# EAGLE library part Z80-CONNECTOR (library common)
3M (TM) Pak 100 4-Wall Header Source: 3M
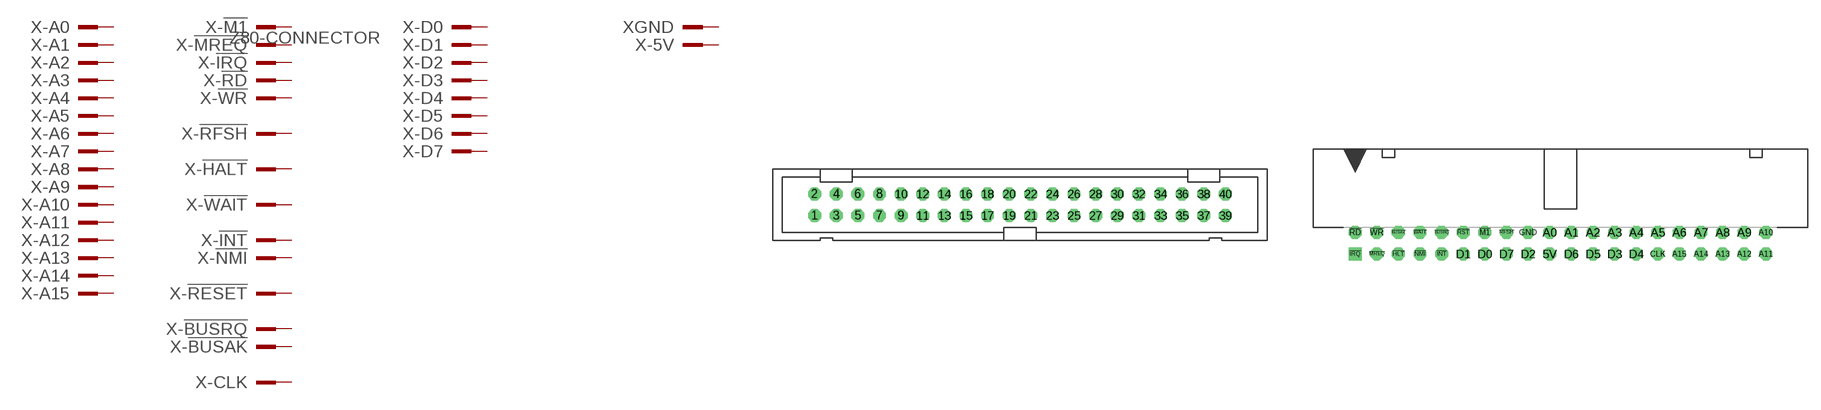
[diagram p25: symbol with the pads of PAK100/2500-40; footprints PAK100/2500-40, PAK100/2500-5-40]

Designator prefix X; gates -!IRQ=PINV-1 -!RD=PIN-1 -!MREQ=PIN-1 -!WR=PIN-1 -!HALT=PIN-1 -!BUSAK=PIN-1 -!NMI=PIN-1 -!WAIT=PIN-1 -!INT=PIN-1 -!BUSRQ=PIN-1 -D1=PIN-1 -!RESET=PIN-1 -D0=PIN-1 -!M1=PIN-1 -D7=PIN-1 -!RFSH=PIN-1 -D2=PIN-1 GND=PIN-1 -5V=PIN-1 -A0=PIN-1 -D6=PIN-1 -A1=PIN-1 -D5=PIN-1 -A2=PIN-1 -D3=PIN-1 -A3=PIN-1 -D4=PIN-1 -A4=PIN-1 -CLK=PIN-1 -A5=PIN-1 -A15=PIN-1 -A6=PIN-1 -A14=PIN-1 -A7=PIN-1 -A13=PIN-1 -A8=PIN-1 -A12=PIN-1 -A9=PIN-1 -A11=PIN-1 -A10=PIN-1

## Z80-CONNECTOR (OC_FARNELL: unknown; OC_NEWARK: unknown)  [PAK100/2500-40]
1  -!IRQ:KL  pas
2  -!RD:KL  pas
3  -!MREQ:KL  pas
4  -!WR:KL  pas
5  -!HALT:KL  pas
6  -!BUSAK:KL  pas
7  -!NMI:KL  pas
8  -!WAIT:KL  pas
9  -!INT:KL  pas
10  -!BUSRQ:KL  pas
11  -D1:KL  pas
12  -!RESET:KL  pas
13  -D0:KL  pas
14  -!M1:KL  pas
15  -D7:KL  pas
16  -!RFSH:KL  pas
17  -D2:KL  pas
18  GND:KL  pas
19  -5V:KL  pas
20  -A0:KL  pas
21  -D6:KL  pas
22  -A1:KL  pas
23  -D5:KL  pas
24  -A2:KL  pas
25  -D3:KL  pas
26  -A3:KL  pas
27  -D4:KL  pas
28  -A4:KL  pas
29  -CLK:KL  pas
30  -A5:KL  pas
31  -A15:KL  pas
32  -A6:KL  pas
33  -A14:KL  pas
34  -A7:KL  pas
35  -A13:KL  pas
36  -A8:KL  pas
37  -A12:KL  pas
38  -A9:KL  pas
39  -A11:KL  pas
40  -A10:KL  pas

## Z80-CONNECTOR-V (OC_FARNELL: 9838414; OC_NEWARK: unknown)  [PAK100/2500-5-40]
5V  -5V:KL  pas
!BUSAK  -!BUSAK:KL  pas
!BUSRQ  -!BUSRQ:KL  pas
!HLT  -!HALT:KL  pas
!INT  -!INT:KL  pas
!IRQ  -!IRQ:KL  pas
!M1  -!M1:KL  pas
!MREQ  -!MREQ:KL  pas
!NMI  -!NMI:KL  pas
!RD  -!RD:KL  pas
!RFSH  -!RFSH:KL  pas
!RST  -!RESET:KL  pas
!WAIT  -!WAIT:KL  pas
!WR  -!WR:KL  pas
A0  -A0:KL  pas
A1  -A1:KL  pas
A2  -A2:KL  pas
A3  -A3:KL  pas
A4  -A4:KL  pas
A5  -A5:KL  pas
A6  -A6:KL  pas
A7  -A7:KL  pas
A8  -A8:KL  pas
A9  -A9:KL  pas
A10  -A10:KL  pas
A11  -A11:KL  pas
A12  -A12:KL  pas
A13  -A13:KL  pas
A14  -A14:KL  pas
A15  -A15:KL  pas
CLK  -CLK:KL  pas
D0  -D0:KL  pas
D1  -D1:KL  pas
D2  -D2:KL  pas
D3  -D3:KL  pas
D4  -D4:KL  pas
D5  -D5:KL  pas
D6  -D6:KL  pas
D7  -D7:KL  pas
GND  GND:KL  pas

## Z80-CONNECTOR-X2  [PAK100/2500-5-40-X2]
1  -!IRQ:KL  pas
2  -!RD:KL  pas
3  -!MREQ:KL  pas
4  -!WR:KL  pas
5  -!HALT:KL  pas
6  -!BUSAK:KL  pas
7  -!NMI:KL  pas
8  -!WAIT:KL  pas
9  -!INT:KL  pas
10  -!BUSRQ:KL  pas
11  -D1:KL  pas
12  -!RESET:KL  pas
13  -D0:KL  pas
14  -!M1:KL  pas
15  -D7:KL  pas
16  -!RFSH:KL  pas
17  -D2:KL  pas
18  GND:KL  pas
19  -5V:KL  pas
20  -A0:KL  pas
21  -D6:KL  pas
22  -A1:KL  pas
23  -D5:KL  pas
24  -A2:KL  pas
25  -D3:KL  pas
26  -A3:KL  pas
27  -D4:KL  pas
28  -A4:KL  pas
29  -CLK:KL  pas
30  -A5:KL  pas
31  -A15:KL  pas
32  -A6:KL  pas
33  -A14:KL  pas
34  -A7:KL  pas
35  -A13:KL  pas
36  -A8:KL  pas
37  -A12:KL  pas
38  -A9:KL  pas
39  -A11:KL  pas
40  -A10:KL  pas
41  -!IRQ:KL  pas
42  -!RD:KL  pas
43  -!MREQ:KL  pas
44  -!WR:KL  pas
45  -!HALT:KL  pas
46  -!BUSAK:KL  pas
47  -!NMI:KL  pas
48  -!WAIT:KL  pas
49  -!INT:KL  pas
50  -!BUSRQ:KL  pas
51  -D1:KL  pas
52  -!RESET:KL  pas
53  -D0:KL  pas
54  -!M1:KL  pas
55  -D7:KL  pas
56  -!RFSH:KL  pas
57  -D2:KL  pas
58  GND:KL  pas
59  -5V:KL  pas
60  -A0:KL  pas
61  -D6:KL  pas
62  -A1:KL  pas
63  -D5:KL  pas
64  -A2:KL  pas
65  -D3:KL  pas
66  -A3:KL  pas
67  -D4:KL  pas
68  -A4:KL  pas
69  -CLK:KL  pas
70  -A5:KL  pas
71  -A15:KL  pas
72  -A6:KL  pas
73  -A14:KL  pas
74  -A7:KL  pas
75  -A13:KL  pas
76  -A8:KL  pas
77  -A12:KL  pas
78  -A9:KL  pas
79  -A11:KL  pas
80  -A10:KL  pas

## Footprint PAK100/2500-40 (pad centres in mm)
3M (TM) Pak 100 4-Wall Header Straight Source: 3M
drill 1 octagon: 1 -24.13,-1.27; 2 -24.13,1.27; 3 -21.59,-1.27; 4 -21.59,1.27; 5 -19.05,-1.27; 6 -19.05,1.27; 7 -16.51,-1.27; 8 -16.51,1.27; 9 -13.97,-1.27; 10 -13.97,1.27; 11 -11.43,-1.27; 12 -11.43,1.27; 13 -8.89,-1.27; 14 -8.89,1.27; 15 -6.35,-1.27; 16 -6.35,1.27; 17 -3.81,-1.27; 18 -3.81,1.27; 19 -1.27,-1.27; 20 -1.27,1.27; 21 1.27,-1.27; 22 1.27,1.27; 23 3.81,-1.27; 24 3.81,1.27; 25 6.35,-1.27; 26 6.35,1.27; 27 8.89,-1.27; 28 8.89,1.27; 29 11.43,-1.27; 30 11.43,1.27; 31 13.97,-1.27; 32 13.97,1.27; 33 16.51,-1.27; 34 16.51,1.27; 35 19.05,-1.27; 36 19.05,1.27; 37 21.59,-1.27; 38 21.59,1.27; 39 24.13,-1.27; 40 24.13,1.27

## Footprint PAK100/2500-5-40 (pad centres in mm)
3M (TM) Pak 100 4-Wall Header Right Angle Source: 3M
drill 1 octagon: 5V -1.27,-1.27; !BUSAK -19.05,1.27; !BUSRQ -13.97,1.27; !HLT -19.05,-1.27; !INT -13.97,-1.27; !M1 -8.89,1.27; !MREQ -21.59,-1.27; !NMI -16.51,-1.27; !RD -24.13,1.27; !RFSH -6.35,1.27; !RST -11.43,1.27; !WAIT -16.51,1.27; !WR -21.59,1.27; A0 -1.27,1.27; A1 1.27,1.27; A2 3.81,1.27; A3 6.35,1.27; A4 8.89,1.27; A5 11.43,1.27; A6 13.97,1.27; A7 16.51,1.27; A8 19.05,1.27; A9 21.59,1.27; A10 24.13,1.27; A11 24.13,-1.27; A12 21.59,-1.27; A13 19.05,-1.27; A14 16.51,-1.27; A15 13.97,-1.27; CLK 11.43,-1.27; D0 -8.89,-1.27; D1 -11.43,-1.27; D2 -3.81,-1.27; D3 6.35,-1.27; D4 8.89,-1.27; D5 3.81,-1.27; D6 1.27,-1.27; D7 -6.35,-1.27; GND -3.81,1.27
drill 1 square: !IRQ -24.13,-1.27

## Footprint PAK100/2500-5-40-X2 (pad centres in mm)
3M (TM) Pak 100 4-Wall Header Right Angle Source: 3M
drill 1 square: 1 -24.13,-1.27; 41 -24.13,-85.09
drill 1 octagon: 2 -24.13,1.27; 3 -21.59,-1.27; 4 -21.59,1.27; 5 -19.05,-1.27; 6 -19.05,1.27; 7 -16.51,-1.27; 8 -16.51,1.27; 9 -13.97,-1.27; 10 -13.97,1.27; 11 -11.43,-1.27; 12 -11.43,1.27; 13 -8.89,-1.27; 14 -8.89,1.27; 15 -6.35,-1.27; 16 -6.35,1.27; 17 -3.81,-1.27; 18 -3.81,1.27; 19 -1.27,-1.27; 20 -1.27,1.27; 21 1.27,-1.27; 22 1.27,1.27; 23 3.81,-1.27; 24 3.81,1.27; 25 6.35,-1.27; 26 6.35,1.27; 27 8.89,-1.27; 28 8.89,1.27; 29 11.43,-1.27; 30 11.43,1.27; 31 13.97,-1.27; 32 13.97,1.27; 33 16.51,-1.27; 34 16.51,1.27; 35 19.05,-1.27; 36 19.05,1.27; 37 21.59,-1.27; 38 21.59,1.27; 39 24.13,-1.27; 40 24.13,1.27; 42 -24.13,-82.55; 43 -21.59,-85.09; 44 -21.59,-82.55; 45 -19.05,-85.09; 46 -19.05,-82.55; 47 -16.51,-85.09; 48 -16.51,-82.55; 49 -13.97,-85.09; 50 -13.97,-82.55; 51 -11.43,-85.09; 52 -11.43,-82.55; 53 -8.89,-85.09; 54 -8.89,-82.55; 55 -6.35,-85.09; 56 -6.35,-82.55; 57 -3.81,-85.09; 58 -3.81,-82.55; 59 -1.27,-85.09; 60 -1.27,-82.55; 61 1.27,-85.09; 62 1.27,-82.55; 63 3.81,-85.09; 64 3.81,-82.55; 65 6.35,-85.09; 66 6.35,-82.55; 67 8.89,-85.09; 68 8.89,-82.55; 69 11.43,-85.09; 70 11.43,-82.55; 71 13.97,-85.09; 72 13.97,-82.55; 73 16.51,-85.09; 74 16.51,-82.55; 75 19.05,-85.09; 76 19.05,-82.55; 77 21.59,-85.09; 78 21.59,-82.55; 79 24.13,-85.09; 80 24.13,-82.55